# Altium schematic symbol library WiCam.SchLib: 6 symbols
Pins are listed as number, name and electrical type; pins without a type are passive.

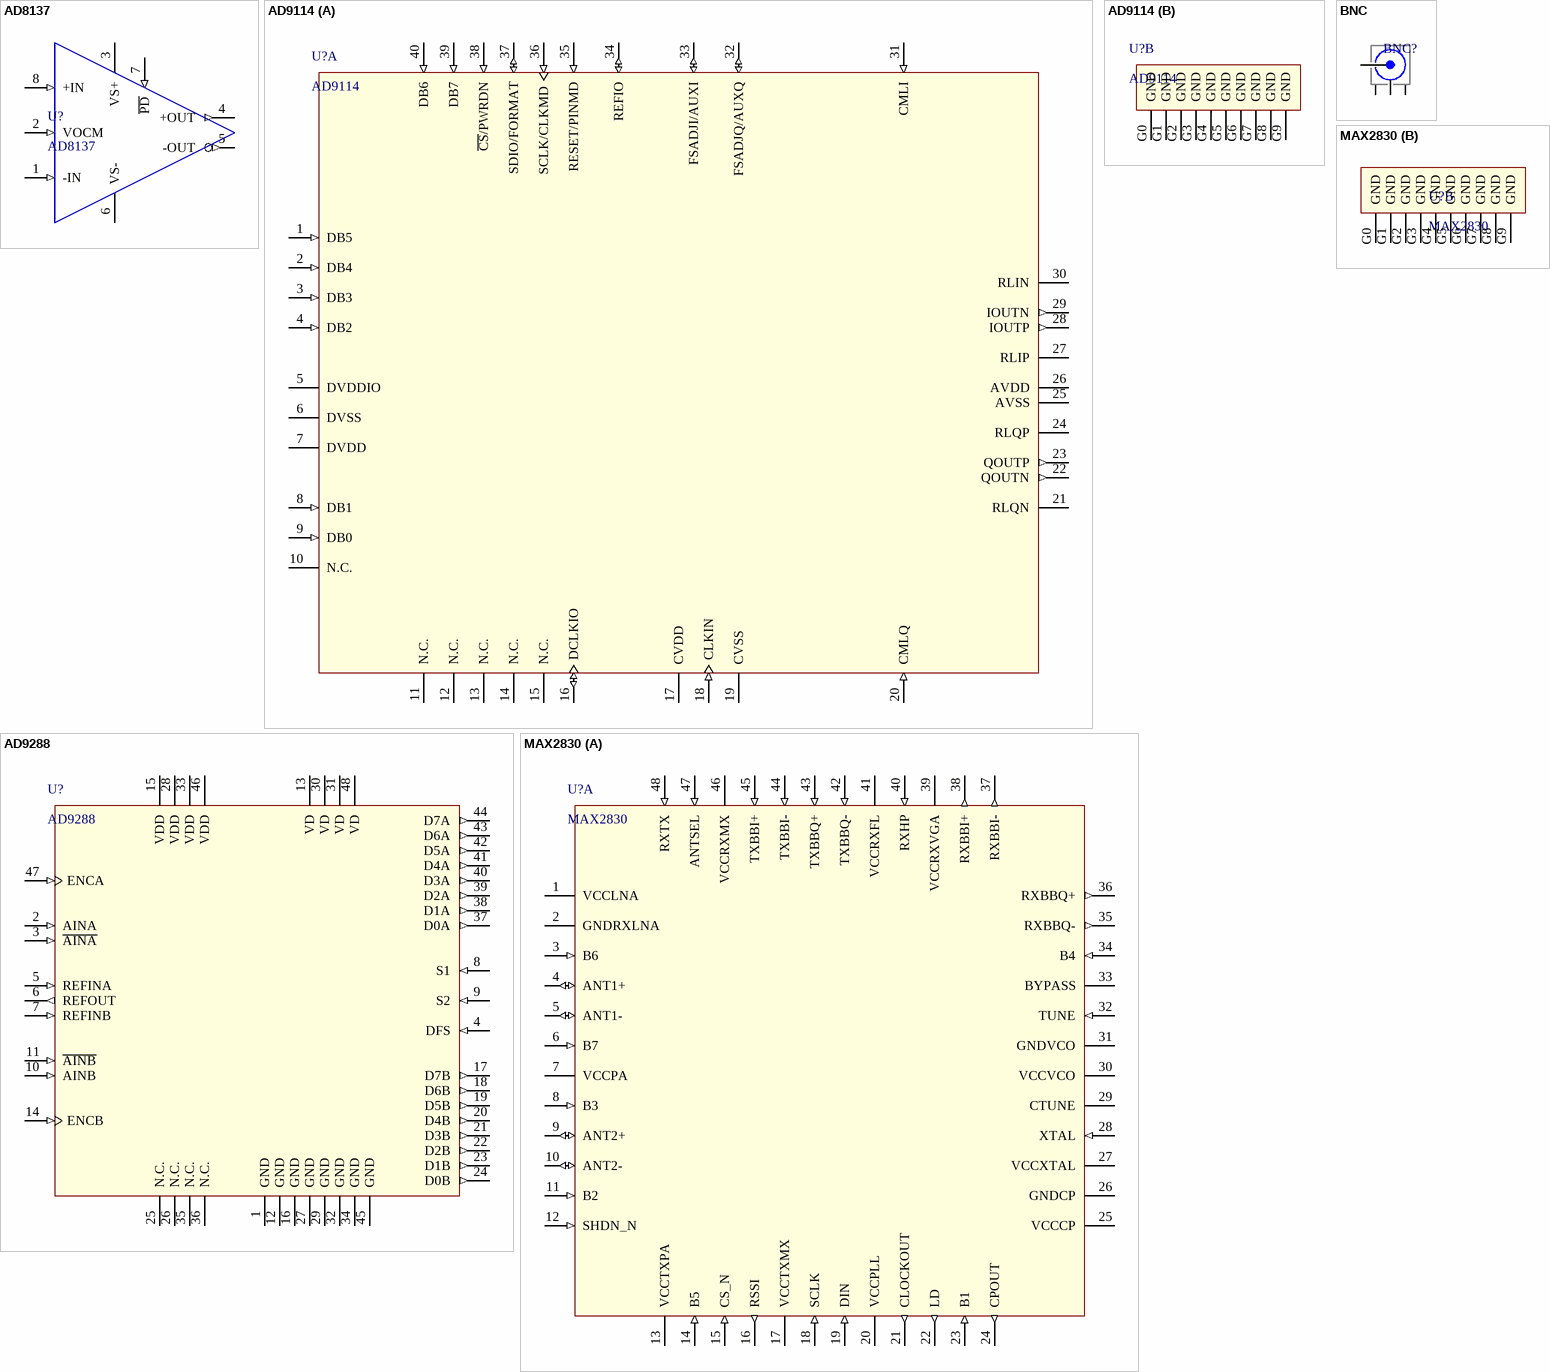
[diagram p0: symbols AD8137 to MAX2830]

## AD8137
designator U?
AMP SE/DIFF IN DIFF OUT
footprint ANALOG LFCSP_WD-8
pins: 1 -IN (in), 2 VOCM (in), 3 VS+ (power), 4 +OUT (out), 5 -OUT (out), 6 VS- (power), 7 ~{PD} (in), 8 +IN (in)

## AD9114
designator U?
DAC 8BIT 125MSPS
footprint ANALOG LFCSP_VQ-40 (LFCSP_VQ EP 40 6X6 MM)
part A pins: 1 DB5 (in), 2 DB4 (in), 3 DB3 (in), 4 DB2 (in), 5 DVDDIO (power), 6 DVSS (power), 7 DVDD (power), 8 DB1 (in), 9 DB0 (in), 10 N.C., 11 N.C., 12 N.C., 13 N.C., 14 N.C., 15 N.C., 16 DCLKIO (io), 17 CVDD (power), 18 CLKIN (in), 19 CVSS (power), 20 CMLQ (in), 21 RLQN, 22 QOUTN (out), 23 QOUTP (out), 24 RLQP, 25 AVSS (power), 26 AVDD (power), 27 RLIP, 28 IOUTP (out), 29 IOUTN (out), 30 RLIN, 31 CMLI (in), 32 FSADJQ/AUXQ (io), 33 FSADJI/AUXI (io), 34 REFIO (io), 35 RESET/PINMD (in), 36 SCLK/CLKMD (in), 37 SDIO/FORMAT (io), 38 ~{CS}/PWRDN (in), 39 DB7 (in), 40 DB6 (in)
part B pins: G0 GND (power), G1 GND (power), G2 GND (power), G3 GND (power), G4 GND (power), G5 GND (power), G6 GND (power), G7 GND (power), G8 GND (power), G9 GND (power)

## AD9288
designator U?
ADC 8BIT 40/80/100MSPS
footprint ANALOG LQFP-48 (TQFN EP 48 7X7 MM)
pins: 1 GND (power), 2 AINA (in), 3 ~{AINA} (in), 4 DFS (in), 5 REFINA (in), 6 REFOUT (out), 7 REFINB (in), 8 S1 (in), 9 S2 (in), 10 AINB (in), 11 ~{AINB} (in), 12 GND (power), 13 VD (power), 14 ENCB (in), 15 VDD (power), 16 GND (power), 17 D7B (out), 18 D6B (out), 19 D5B (out), 20 D4B (out), 21 D3B (out), 22 D2B (out), 23 D1B (out), 24 D0B (out), 25 N.C., 26 N.C., 27 GND (power), 28 VDD (power), 29 GND (power), 30 VD (power), 31 VD (power), 32 GND (power), 33 VDD (power), 34 GND (power), 35 N.C., 36 N.C., 37 D0A (out), 38 D1A (out), 39 D2A (out), 40 D3A (out), 41 D4A (out), 42 D5A (out), 43 D6A (out), 44 D7A (out), 45 GND (power), 46 VDD (power), 47 ENCA (in), 48 VD (power)

## BNC
designator BNC?
BNC CONNECTOR
footprint BNC RA
pins: 1 SIGNAL, 2 SHELL, S1, S2

## MAX2830
designator U?
RF RXTX 2.4GHZ
footprint MAXIM T4877-4 (TQFN EP 48 7X7 MM)
part A pins: 1 VCCLNA (power), 2 GNDRXLNA (power), 3 B6 (in), 4 ANT1+ (io), 5 ANT1- (io), 6 B7 (in), 7 VCCPA (power), 8 B3 (in), 9 ANT2+ (io), 10 ANT2- (io), 11 B2 (in), 12 SHDN_N (in), 13 VCCTXPA (power), 14 B5 (in), 15 CS_N (in), 16 RSSI (out), 17 VCCTXMX (power), 18 SCLK (in), 19 DIN (in), 20 VCCPLL (power), 21 CLOCKOUT (out), 22 LD (out), 23 B1 (in), 24 CPOUT (out), 25 VCCCP (power), 26 GNDCP (power), 27 VCCXTAL (power), 28 XTAL (in), 29 CTUNE, 30 VCCVCO (power), 31 GNDVCO (power), 32 TUNE (in), 33 BYPASS, 34 B4 (in), 35 RXBBQ- (out), 36 RXBBQ+ (out), 37 RXBBI- (out), 38 RXBBI+ (out), 39 VCCRXVGA (power), 40 RXHP (in), 41 VCCRXFL (power), 42 TXBBQ- (in), 43 TXBBQ+ (in), 44 TXBBI- (in), 45 TXBBI+ (in), 46 VCCRXMX (power), 47 ANTSEL (in), 48 RXTX (in)
part B pins: G0 GND (power), G1 GND (power), G2 GND (power), G3 GND (power), G4 GND (power), G5 GND (power), G6 GND (power), G7 GND (power), G8 GND (power), G9 GND (power)

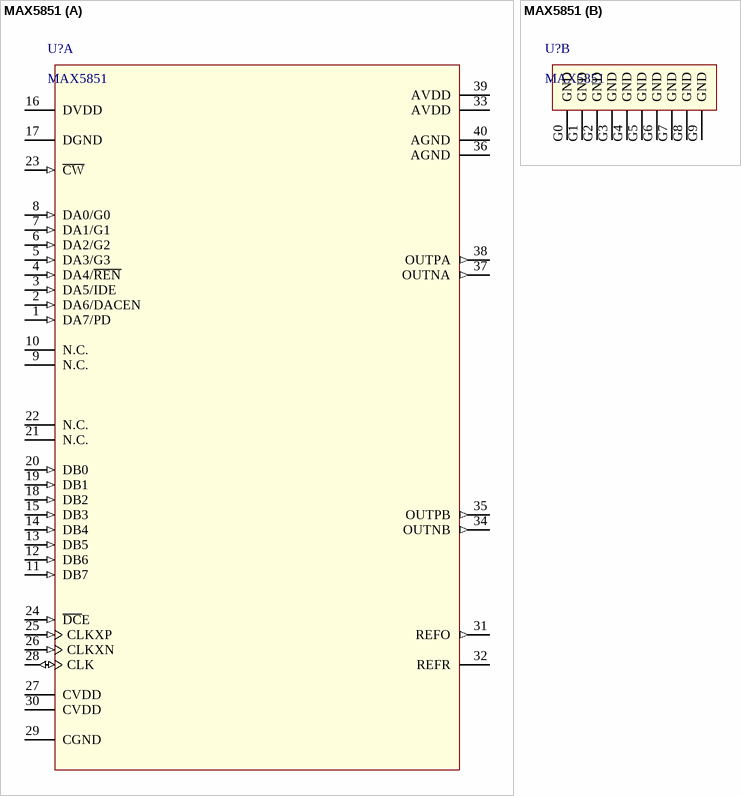
[diagram p1: symbol MAX5851]

## MAX5851
designator U?
DAC 8BIT 80MSPS
footprint MAXIM T4066-2 (TQFN EP 40 6X6 MM)
part A pins: 1 DA7/PD (in), 2 DA6/DACEN (in), 3 DA5/IDE (in), 4 DA4/~{REN} (in), 5 DA3/G3 (in), 6 DA2/G2 (in), 7 DA1/G1 (in), 8 DA0/G0 (in), 9 N.C., 10 N.C., 11 DB7 (in), 12 DB6 (in), 13 DB5 (in), 14 DB4 (in), 15 DB3 (in), 16 DVDD (power), 17 DGND (power), 18 DB2 (in), 19 DB1 (in), 20 DB0 (in), 21 N.C., 22 N.C., 23 ~{CW} (in), 24 ~{DC}E (in), 25 CLKXP (in), 26 CLKXN (in), 27 CVDD (power), 28 CLK (io), 29 CGND (power), 30 CVDD (power), 31 REFO (out), 32 REFR, 33 AVDD (power), 34 OUTNB (out), 35 OUTPB (out), 36 AGND (power), 37 OUTNA (out), 38 OUTPA (out), 39 AVDD (power), 40 AGND (power)
part B pins: G0 GND (power), G1 GND (power), G2 GND (power), G3 GND (power), G4 GND (power), G5 GND (power), G6 GND (power), G7 GND (power), G8 GND (power), G9 GND (power)